# Altium footprint library 744311470.PcbLib: 1 footprints
Each footprint in its own frame and in the unit in brackets; x right, y up, seen from the top. Pads: shape width x height; smd on the part's side, far side on the other; paste and mask are expansions set on the pad; w line width, h text height; cw(c..) or ccw(c..) is an arc to the next point about the centre after c.
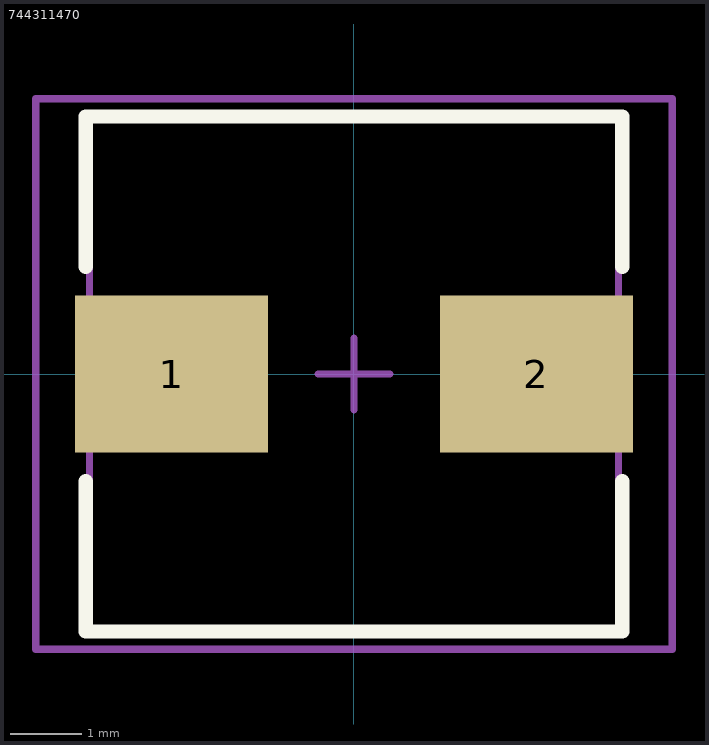
[diagram p0: the footprint, top view; thin cyan lines are the x and y axes]

## 744311470 [mm]
pads (2):
  rect 2.7x2.2 smd: 1(-2.55,0) 2(2.55,0)
Top Overlay:
  lines w0.2: -3.75,-1.5 -3.75,-3.6 3.75,-3.6 3.75,-1.5 ; -3.75,1.5 -3.75,3.6 3.75,3.6 3.75,1.5
Mechanical 13:
  lines w0.1: -3.7,-3.6 -3.7,3.6 3.7,3.6 3.7,-3.6 -3.7,-3.6
Mechanical 15:
  lines w0.1: -0.5,0 0.5,0 ; 0,-0.5 0,0.5 ; -4.45,-3.85 -4.45,3.85 4.45,3.85 4.45,-3.85 -4.45,-3.85
3D body "744311220.stp": height 4, standoff 0, extent -3.5,-3.45 3.5,3.45